# EAGLE library part 50238-030 (library con-aces-50238-series)
ACES CONNECTORS 50238 SERIES ACES Connecors 50238 <https://www.acesconn.com/tw/series/50238-xxxxx-xxx/1290>
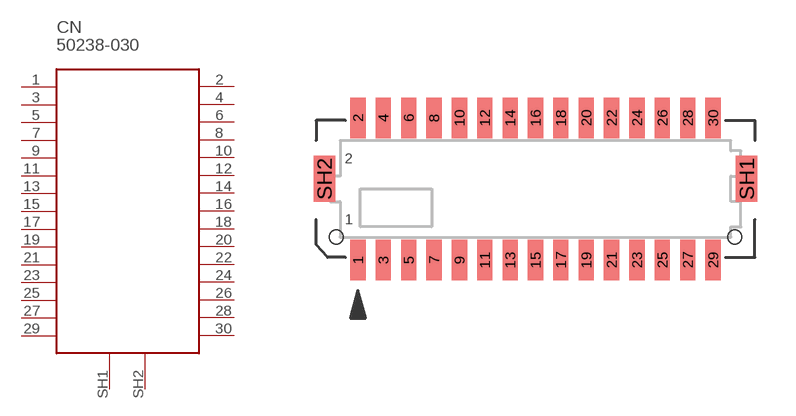
[diagram p9: symbol with the pads of 50238-030; footprint 50238-030]

Designator prefix CN

## 50238-030  [50238-030]
1  1
2  2
3  3
4  4
5  5
6  6
7  7
8  8
9  9
10  10
11  11
12  12
13  13
14  14
15  15
16  16
17  17
18  18
19  19
20  20
21  21
22  22
23  23
24  24
25  25
26  26
27  27
28  28
29  29
30  30
SH1  SH1
SH2  SH2

## Footprint 50238-030 (pad centres in mm)
smd 0.6 x 1.6: 1 -7,-2.8; 2 -7,2.8; 3 -6,-2.8; 4 -6,2.8; 5 -5,-2.8; 6 -5,2.8; 7 -4,-2.8; 8 -4,2.8; 9 -3,-2.8; 10 -3,2.8; 11 -2,-2.8; 12 -2,2.8; 13 -1,-2.8; 14 -1,2.8; 15 0,-2.8; 16 0,2.8; 17 1,-2.8; 18 1,2.8; 19 2,-2.8; 20 2,2.8; 21 3,-2.8; 22 3,2.8; 23 4,-2.8; 24 4,2.8; 25 5,-2.8; 26 5,2.8; 27 6,-2.8; 28 6,2.8; 29 7,-2.8; 30 7,2.8
smd 0.85 x 1.8: SH1 8.325,0.4; SH2 -8.325,0.4
hole 0.55 at -7.85,-1.9
hole 0.55 at 7.85,-1.9